# Altium schematic symbol library TPSM265R1V3SILR.SchLib: 1 symbol
Pins are listed as number, name and electrical type; pins without a type are passive.

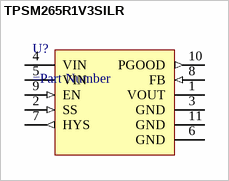
[diagram p0: symbol TPSM265R1V3SILR]

## TPSM265R1V3SILR
designator U?
=Description
pins: 1 VOUT (power), 2 SS (in), 3 GND (power), 4 VIN (power), 5 VIN (power), 6 GND (power), 7 HYS (out), 8 FB (in), 9 EN (in), 10 PGOOD (out), 11 GND (power)